# Altium schematic symbol library DF13-4P-1.25H.Schlib: 1 symbol
Pins are listed as number, name and electrical type; pins without a type are passive.

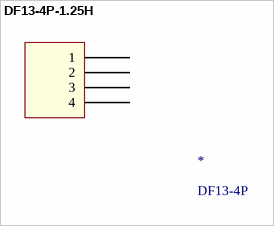
[diagram p0: symbol DF13-4P-1.25H]

## DF13-4P-1.25H
designator *, comment DF13-4P
CONN SM DF13 4P RA 1.25H
pins: 1, 2, 3, 4